# EAGLE library part FAN3223 (library mosfet_drivers)
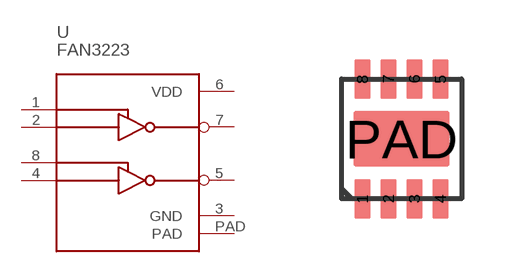
[diagram p0: symbol with the pads of MLP8; footprint MLP8]

Designator prefix -

## FAN3223  [MLP8]
1  ENA
2  INA
3  GND
4  INB
5  OUTB
6  VDD
7  OUTA
8  ENB
PAD  PAD

## Footprint MLP8 (pad centres in mm)
smd 0.4 x 1: 1 -0.975,-1.5; 2 -0.325,-1.5; 3 0.325,-1.5; 4 0.975,-1.5; 5 0.975,1.5; 6 0.325,1.5; 7 -0.325,1.5; 8 -0.975,1.5
smd 2.4 x 1.4: PAD 0,0